# Altium footprint library lib.PcbLib: 18 footprints (part 1 of 2)
Each footprint in its own frame and in the unit in brackets; x right, y up, seen from the top. Pads: shape width x height; smd on the part's side, far side on the other; paste and mask are expansions set on the pad; w line width, h text height; cw(c..) or ccw(c..) is an arc to the next point about the centre after c.
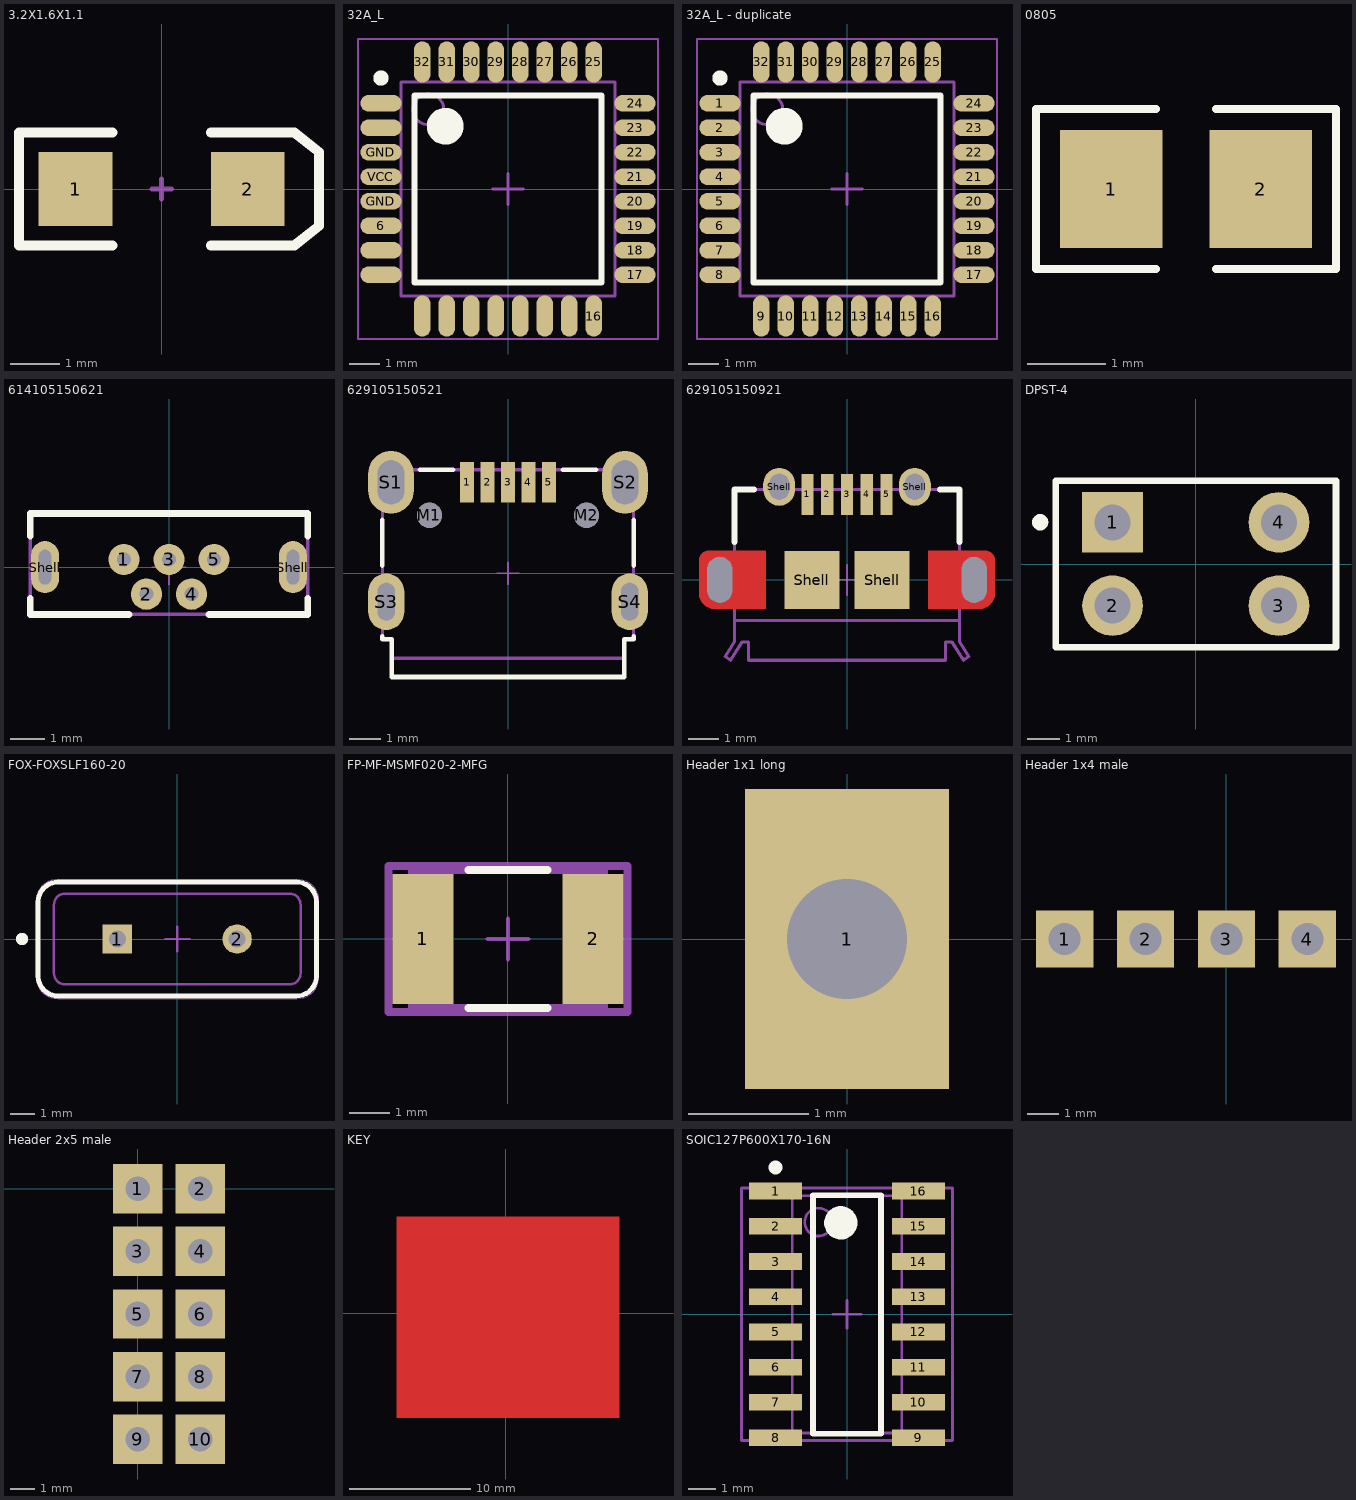
[diagram p0: the footprints below, top view; thin cyan lines are the x and y axes]

## 3.2X1.6X1.1 [mm] "SMT LED; 2 Flat Leads"
height 1.2
pads (2):
  rect 1.5x1.5 smd: 1(-1.75,0) 2(1.75,0)
Top Overlay:
  lines w0.2: -1,-1.15 -2.9,-1.15 -2.9,1.15 -1,1.15 ; 1,-1.15 2.7,-1.15 3.2,-0.75 3.2,0.75 2.7,1.15 1,1.15
Mechanical 1:
  lines w0.1: -0.2,0 0.2,0 ; 0,-0.2 0,0.2

## 32A_L [mm] "Thin QFP, 32-Leads, Body 7x7mm, Pitch 0.8mm, IPC High Density"
height 1.2
pads (32):
  oval 1.35x0.55 smd: 6(-4.15,-1.2) 17(4.15,-2.8) 18(4.15,-2) 19(4.15,-1.2) 20(4.15,-0.4) 21(4.15,0.4) 22(4.15,1.2) 23(4.15,2) 24(4.15,2.8) GND(-4.15,-0.4) GND(-4.15,1.2) "PB6 (PCINT6/XTAL1/TOSC1)"(-4.15,-2) "PB7 (PCINT7/XTAL2/TOSC2)"(-4.15,-2.8) "PD3 (PCINT19/OC2B/INT1)"(-4.15,2.8) "PD4 (PCINT20/XCK/T0)"(-4.15,2) VCC(-4.15,0.4)
  oval 0.55x1.35 smd: 16(2.8,-4.15) 25(2.8,4.15) 26(2,4.15) 27(1.2,4.15) 28(0.4,4.15) 29(-0.4,4.15) 30(-1.2,4.15) 31(-2,4.15) 32(-2.8,4.15) "PB0 (PCINT0/CLKO/ICP1)"(-0.4,-4.15) "PB1 (PCINT1/OC1A)"(0.4,-4.15) "PB2 (PCINT2/S\S\/OC1B)"(1.2,-4.15) "PB3 (PCINT3/OC2A/MOSI)"(2,-4.15) "PD5 (PCINT21/OC0B/T1)"(-2.8,-4.15) "PD6 (PCINT22/OC0A/AIN0)"(-2,-4.15) "PD7 (PCINT23/AIN1)"(-1.2,-4.15)
Top Overlay:
  circle w0.25: c-4.15,3.625 r0.125
  circle w0.6: c-2.05,2.05 r0.3
  lines w0.2: -3.05,-3.05 -3.05,3.05 3.05,3.05 3.05,-3.05 -3.05,-3.05
Mechanical 13:
  circle w0.1: c-2.6,2.6 r0.5
  lines w0.1: -3.5,-3.5 -3.5,3.5 3.5,3.5 3.5,-3.5 -3.5,-3.5
Mechanical 15:
  lines w0.05: -4.9,-4.9 -4.9,4.9 4.9,4.9 4.9,-4.9 -4.9,-4.9
  lines w0.1: -0.5,0 0.5,0 ; 0,-0.5 0,0.5
3D body: height 1.2, standoff 0, extent -3.5,-3.5 3.5,3.5

## 32A_L - duplicate [mm] "Thin QFP, 32-Leads, Body 7x7mm, Pitch 0.8mm, IPC High Density"
height 1.2
pads (32):
  oval 1.35x0.55 smd: 1(-4.15,2.8) 2(-4.15,2) 3(-4.15,1.2) 4(-4.15,0.4) 5(-4.15,-0.4) 6(-4.15,-1.2) 7(-4.15,-2) 8(-4.15,-2.8) 17(4.15,-2.8) 18(4.15,-2) 19(4.15,-1.2) 20(4.15,-0.4) 21(4.15,0.4) 22(4.15,1.2) 23(4.15,2) 24(4.15,2.8)
  oval 0.55x1.35 smd: 9(-2.8,-4.15) 10(-2,-4.15) 11(-1.2,-4.15) 12(-0.4,-4.15) 13(0.4,-4.15) 14(1.2,-4.15) 15(2,-4.15) 16(2.8,-4.15) 25(2.8,4.15) 26(2,4.15) 27(1.2,4.15) 28(0.4,4.15) 29(-0.4,4.15) 30(-1.2,4.15) 31(-2,4.15) 32(-2.8,4.15)
Top Overlay:
  circle w0.6: c-2.05,2.05 r0.3
  circle w0.25: c-4.15,3.625 r0.125
  lines w0.2: -3.05,-3.05 3.05,-3.05 3.05,3.05 -3.05,3.05 -3.05,-3.05
Mechanical 13:
  circle w0.1: c-2.6,2.6 r0.5
  lines w0.1: -3.5,-3.5 3.5,-3.5 3.5,3.5 -3.5,3.5 -3.5,-3.5
Mechanical 15:
  lines w0.05: -4.9,-4.9 4.9,-4.9 4.9,4.9 -4.9,4.9 -4.9,-4.9
  lines w0.1: -0.5,0 0.5,0 ; 0,-0.5 0,0.5
3D body: height 1.2, standoff 0, extent -3.5,-3.5 3.5,3.5

## 0805 [mm]
pads (2):
  rect 1.3x1.5 smd: 1(16.152,-20.443) 2(18.052,-20.443)
Top Overlay:
  lines w0.1: 16.721,-21.459 15.197,-21.459 15.197,-19.427 16.721,-19.427 ; 17.483,-21.459 19.007,-21.459 19.007,-19.427 17.483,-19.427
3D body: height 1, standoff 0, extent 15.959,-20.951 16.086,-19.935
3D body: height 1, standoff 0, extent 18.118,-20.951 18.245,-19.935
3D body: height 1, standoff 0, extent 16.086,-20.951 18.118,-19.935

## 614105150621 [mm] "Micro USB 2.0 Type AB Vertical 5 Contacts"
height 5.61
pads (7):
  round 0.9 hole 0.4: 1(-1.3,0.22) 2(-0.65,-0.78) 3(0,0.22) 4(0.65,-0.78) 5(1.3,0.22)
  oval 0.8x1.5 hole 0.35 slot 1 at 90 deg: Shell(-3.575,0) Shell(3.575,0)
Top Overlay:
  lines w0.2: -4,-0.9 -4,-1.36 -1.15,-1.36 ; -4,0.9 -4,1.54 4,1.54 4,0.9 ; 1.15,-1.36 4,-1.36 4,-0.9
Mechanical 13:
  lines w0.1: -4,-1.36 -4,1.54 4,1.54 4,-1.36 -4,-1.36
Mechanical 15:
  lines w0.05: -0.5,0 0.5,0 ; 0,-0.5 0,0.5
3D body "614105150621.stp": height 5.66, standoff -1.45, extent -4,-1.36 4,1.54

## 629105150521 [mm] "Micro USB 2.0 SMT Type B Horizontal 5 Contacts High Current"
height 2.66
pads (11):
  rect 0.45x1.3 smd: 1(-1.3,2.9) 2(-0.65,2.9) 3(0,2.9) 4(0.65,2.9) 5(1.3,2.9)
  round 0.8 hole 0.8 unplated: M1(-2.5,1.85) M2(2.5,1.85)
  oval 1.45x2 hole 0.85 slot 1.4 at 90 deg: S1(-3.725,2.9) S2(3.725,2.9)
  oval 1.15x1.8 hole 0.55 slot 1.2 at 90 deg: S3(-3.875,-0.9) S4(3.875,-0.9)
Top Overlay:
  lines w0.15: -4,-2 -4,-2.1 -3.7,-2.1 -3.7,-3.3 3.7,-3.3 3.7,-2.1 4,-2.1 4,-2 ; -4,0.25 -4,1.7 ; -2.8,3.3 -1.75,3.3 ; 1.75,3.3 2.8,3.3 ; 4,0.25 4,1.7
Mechanical 1:
  lines w0.1: -3.7,-2.7 3.7,-2.7
  text "PCB Thickness 1.2mm" at -3.4,-4 h0.76
  text "PCB Edge" at -1.4,-2.5 h0.76
Mechanical 13:
  lines w0.1: -4,-2.1 -3.7,-2.1 -3.7,-3.3 3.7,-3.3 3.7,-2.1 4,-2.1 4,3.3 -4,3.3 -4,-2.1
Mechanical 15:
  lines w0.05: -0.35,0 0.35,0 ; 0,-0.35 0,0.35
3D body "629105150521.stp": height 2.77, standoff -1.75, extent -4,-3.3 4,3.303

## 629105150921 [mm] "Micro USB 2.0 Type AB Horizontal"
height 3
pads (11):
  rect 0.4x1.35 smd: 1(-1.3,2.805) 2(-0.65,2.805) 3(0,2.805) 4(0.65,2.805) 5(1.3,2.805)
  round 0 / inner oval 1.4x2.1 / far side oval 1.4x2.1 hole 0.825 slot 1.5 at 90 deg mask+0.102: Shell(-4.175,0)
  oval 1.05x1.25 hole 0.65 slot 0.85 at 90 deg: Shell(-2.225,3.055) Shell(2.225,3.055)
  rect 1.8x1.9 smd: Shell(-1.15,0) Shell(1.15,0)
  round 0 / inner round 0 / far side oval 1.4x2.1 hole 0.825 slot 1.5 at 90 deg mask+0.102: Shell(4.175,0)
Top Layer:
  region: -4.353,-0.95 -4.452,-0.95 -4.636,-0.874 -4.776,-0.733 -4.852,-0.549 -4.852,-0.45 -4.852,0.65 -4.852,0.71 -4.807,0.82 -4.722,0.904 -4.612,0.95 -4.553,0.95 -2.668,0.95 -2.668,-0.95
  region: 4.353,-0.95 4.452,-0.95 4.636,-0.874 4.776,-0.733 4.852,-0.549 4.852,-0.45 4.852,0.65 4.852,0.71 4.807,0.82 4.722,0.904 4.612,0.95 4.553,0.95 2.668,0.95 2.668,-0.95
Top Overlay:
  lines w0.2: -3.7,1.25 -3.7,2.97 -3.05,2.97 ; 3.05,2.97 3.7,2.97 3.7,1.25
Mechanical 2:
  lines w0.1: -3.7,-1.33 3.7,-1.33
  text "PCB Edge" at -1.1,-2 h0.41
Mechanical 13:
  lines w0.1: -4,-2.515 -3.825,-2.64 -3.45,-2.04 -3.24,-2.04 -3.24,-2.64 3.24,-2.64 3.24,-2.04 3.45,-2.04 3.825,-2.64 4,-2.515 3.7,-2.04 3.7,2.97 -3.7,2.97 -3.7,-2.04 -4,-2.515
Mechanical 15:
  lines w0.05: -0.5,0 0.5,0 ; 0,-0.5 0,0.5
3D body "629105150921.stp": height 2.76, standoff -0.52, extent -4.3,-2.64 4.3,3.23

## DPST-4 [mm] "Switch; 4 Leads"
pads (4):
  rect 1.85x1.85 hole 1.1: 1(-2.54,1.27)
  round 1.85 hole 1.1: 2(-2.54,-1.27) 3(2.54,-1.27) 4(2.54,1.27)
Top Overlay:
  circle w0.25: c-4.751,1.274 r0.125
  lines w0.2: -4.28,-2.54 -4.28,2.54 4.28,2.54 4.28,-2.54 -4.28,-2.54

## FOX-FOXSLF160-20 [mm] "THD, 2-Leads, Body 11.35x4.65mm"
height 3.6
pads (2):
  rect 1.2x1.2 hole 0.7: 1(-2.44,0)
  round 1.2 hole 0.7: 2(2.44,0)
Top Overlay:
  circle w0.25: c-6.325,0 r0.125
  lines w0.2: -5.675,-1.5 ccw(c-4.85,-1.5) -4.85,-2.325 4.85,-2.325 ccw(c4.85,-1.5) 5.675,-1.5 5.675,1.5 ccw(c4.85,1.5) 4.85,2.325 -4.85,2.325 ccw(c-4.85,1.5) -5.675,1.5 -5.675,-1.5 ; -5.675,-1.5 -5.675,-1.5
Mechanical 13:
  lines w0.1: -5.675,-1.5 ccw(c-4.85,-1.5) -4.85,-2.325 4.85,-2.325 ccw(c4.85,-1.5) 5.675,-1.5 5.675,1.5 ccw(c4.85,1.5) 4.85,2.325 -4.85,2.325 ccw(c-4.85,1.5) -5.675,1.5 -5.675,-1.5 ; -5.675,-1.5 -5.675,-1.5 ; -5.025,-1.4 ccw(c-4.575,-1.4) -4.575,-1.85 4.575,-1.85 ccw(c4.575,-1.4) 5.025,-1.4 5.025,1.4 ccw(c4.575,1.4) 4.575,1.85 -4.575,1.85 ccw(c-4.575,1.4) -5.025,1.4 -5.025,-1.4
Mechanical 15:
  lines w0.05: -4.85,2.425 4.85,2.425 cw(c4.9,1.55) 5.775,1.6 5.775,-1.599 cw(c4.9,-1.549) 4.869,-2.425 ; -4.831,2.425 ccw(c-4.881,1.55) -5.756,1.6 -5.756,-1.599 ccw(c-4.881,-1.549) -4.85,-2.425 4.85,-2.425
  lines w0.1: -0.5,0 0.5,0 ; 0,-0.5 0,0.5
3D body: height 3.6, standoff 1, extent -5.025,-1.85 5.025,1.85
3D body: height 1, standoff 0, extent -5.675,-2.325 5.675,2.325

## FP-MF-MSMF020-2-MFG [mm]
pads (2):
  rect 1.5x3.2 smd paste+0 mask+0: 1(-2.1,0) 2(2.1,0)
Top Overlay:
  lines w0.2: -0.975,-1.705 0.975,-1.705 ; -0.975,1.705 0.975,1.705
Top 3D Body:
  lines w0.2: -2.365,-1.705 -2.365,1.705 2.365,1.705 2.365,-1.705 -2.365,-1.705
Top Courtyard:
  lines w0.2: -2.95,-1.805 -2.95,1.805 2.95,1.805 2.95,-1.805 -2.95,-1.805
Top Assembly:
  lines w0.2: -2.95,-1.805 -2.95,1.805 2.95,1.805 2.95,-1.805 -2.95,-1.805
  text ".Designator" at 0,0.188 h1
Top Component Center:
  lines w0.1: -0.5,0 0.5,0 ; 0,-0.5 0,0.5
3D body "Fuse_Bourns_MF-MSMF020-2_eec.STEP": height 0.25, standoff 0, extent -2.95,-1.805 2.95,1.805

## Header 1x1 long [mm] "2.54mm"
pads (1):
  rect 1.7x2.5 hole 1: 1(0,0)

## Header 1x4 male [mm] "2.54mm"
pads (4):
  rect 1.8x1.8 hole 1: 1(-5.08,0) 2(-2.54,0) 3(0,0) 4(2.54,0)
3D body "DS1021-1x4S61.stp": height 8.6, standoff -3, extent -6.35,-1.27 3.81,1.27

## Header 2x5 male [mm]
pads (10):
  rect 2x2 hole 1: 1(0,0) 2(2.54,0) 3(0,-2.54) 4(2.54,-2.54) 5(0,-5.08) 6(2.54,-5.08) 7(0,-7.62) 8(2.54,-7.62) 9(0,-10.16) 10(2.54,-10.16)
3D body "DS1021-2x5S61.stp": height 8.6, standoff -3, extent -1.27,-11.43 3.81,1.27

## KEY [mm]
Top Layer:
  rectangle: -9.017,-8.636 9.398,8.001
Top Solder:
  rectangle: -12.192,-10.668 12.573,10.541

## PCBComponent_1 [mm]

## SOIC127P600X170-16N [mm] "SOIC, 16-Leads, Body 8.6x4.0mm (max), Pitch 1.27mm, IPC Medium Density"
height 1.7
pads (16):
  rect 1.9x0.6 smd: 1(-2.575,4.445) 2(-2.575,3.175) 3(-2.575,1.905) 4(-2.575,0.635) 5(-2.575,-0.635) 6(-2.575,-1.905) 7(-2.575,-3.175) 8(-2.575,-4.445) 9(2.575,-4.445) 10(2.575,-3.175) 11(2.575,-1.905) 12(2.575,-0.635) 13(2.575,0.635) 14(2.575,1.905) 15(2.575,3.175) 16(2.575,4.445)
Top Overlay:
  circle w0.6: c-0.225,3.3 r0.3
  circle w0.25: c-2.575,5.295 r0.125
  lines w0.2: -1.225,-4.3 1.225,-4.3 1.225,4.3 -1.225,4.3 -1.225,-4.3
Mechanical 13:
  circle w0.1: c-1.025,3.325 r0.5
  lines w0.1: -1.975,-4.275 1.975,-4.275 1.975,4.275 -1.975,4.275 -1.975,-4.275
Mechanical 15:
  lines w0.1: -0.5,0 0.5,0 ; 0,-0.5 0,0.5 ; -3.8,-4.55 3.8,-4.55 3.8,4.55 -3.8,4.55 -3.8,-4.55
3D body: height 1.7, standoff 0.16, extent -1.975,-4.275 1.975,4.275